# EAGLE library part HFA3096BZ (library SamacSys_Parts)
Intersil HFA3096BZ Pent NPN+PNP Transistor, 65 mA, 8 V, 16-Pin SOIC Source: Datasheet <https://www.intersil.com/content/dam/Intersil/documents/hfa3/hfa3046-3096-3127-3128.pdf>
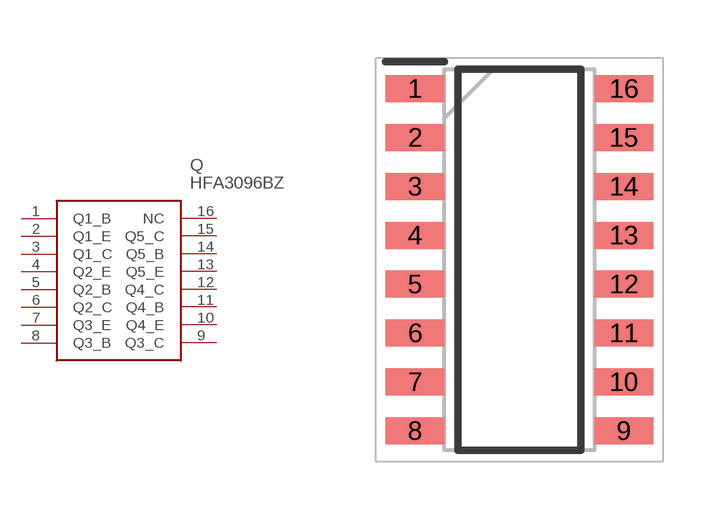
[diagram p6: symbol with the pads of SOIC127P600X175-16N; footprint SOIC127P600X175-16N]

Designator prefix Q

## HFA3096BZ (Description: Intersil HFA3096BZ Pent NPN+PNP Transistor, 65 mA, 8 V, 16-Pin SOIC; Height: 1.75mm; Manufacturer_Name: Intersil; Manufacturer_Part_Number: HFA3096BZ)  [SOIC127P600X175-16N]
1  Q1_B
2  Q1_E
3  Q1_C
4  Q2_E
5  Q2_B
6  Q2_C
7  Q3_E
8  Q3_B
9  Q3_C
10  Q4_E
11  Q4_B
12  Q4_C
13  Q5_E
14  Q5_B
15  Q5_C
16  NC  nc

## Footprint SOIC127P600X175-16N (pad centres in mm)
M16.15 (SOIC)
smd 1.525 x 0.7: 1 -2.712,4.445; 2 -2.712,3.175; 3 -2.712,1.905; 4 -2.712,0.635; 5 -2.712,-0.635; 6 -2.712,-1.905; 7 -2.712,-3.175; 8 -2.712,-4.445; 9 2.712,-4.445; 10 2.712,-3.175; 11 2.712,-1.905; 12 2.712,-0.635; 13 2.712,0.635; 14 2.712,1.905; 15 2.712,3.175; 16 2.712,4.445